# EAGLE library part RS3-1212D (library DC-DC Converter)
DC DC CONVERTER +/-12V 3W Manufacturer's datasheet <https://recom-power.com/pdf/Econoline/RS3.pdf>
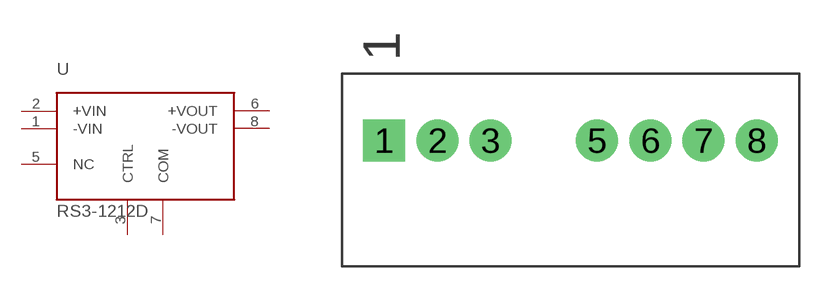
[diagram p2: symbol with the pads of RS3-1212D; footprint RS3-1212D]

Designator prefix U

## RS3-1212D (CREATED_BY: PCBLayout.com; DIGIKEY_PN: 945-1563-5-ND; MANUFACTURER: Recom Power; MPN: RS3-1212D; PACKAGE: 8-SIP Module)  [RS3-1212D]
1  -VIN  in
2  +VIN  in
3  CTRL  pwr
5  NC  pas
6  +VOUT  out
7  COM  pwr
8  -VOUT  out

## Footprint RS3-1212D (pad centres in mm)
drill 1 pad 2 square: 1 -8.89,0
drill 1 pad 2: 2 -6.35,0; 3 -3.81,0; 5 1.27,0; 6 3.81,0; 7 6.35,0; 8 8.89,0